# EAGLE library part M2M-SIM-IC (library sim)
M2M Sim IC with MFF2 Package
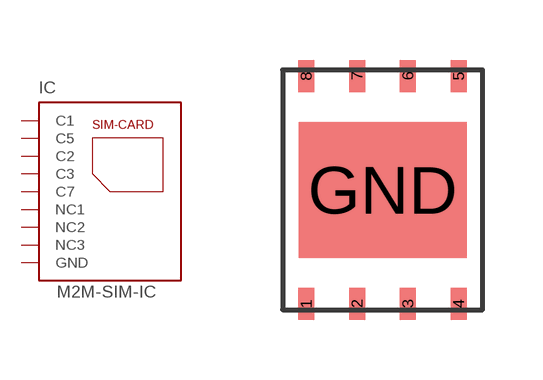
[diagram p1: symbol with the pads of MFF2; footprint MFF2]

Designator prefix IC

## M2M-SIM-IC  [MFF2]
1  C5  pas
2  NC1  pas
3  C7  pas
4  NC2  pas
5  NC3  pas
6  C3  pas
7  C2  pas
8  C1  pas
GND  GND  pas

## Footprint MFF2 (pad centres in mm)
smd 0.4 x 0.8: 1 -1.905,-2.85; 2 -0.635,-2.85; 3 0.635,-2.85; 4 1.905,-2.85; 5 1.905,2.85; 6 0.635,2.85; 7 -0.635,2.85; 8 -1.905,2.85
smd 4.2 x 3.4: GND 0,0